# Altium footprint library ANT-LTE-CER-T.PcbLib: 1 footprints
Each footprint in its own frame and in the unit in brackets; x right, y up, seen from the top. Pads: shape width x height; smd on the part's side, far side on the other; paste and mask are expansions set on the pad; w line width, h text height; cw(c..) or ccw(c..) is an arc to the next point about the centre after c.
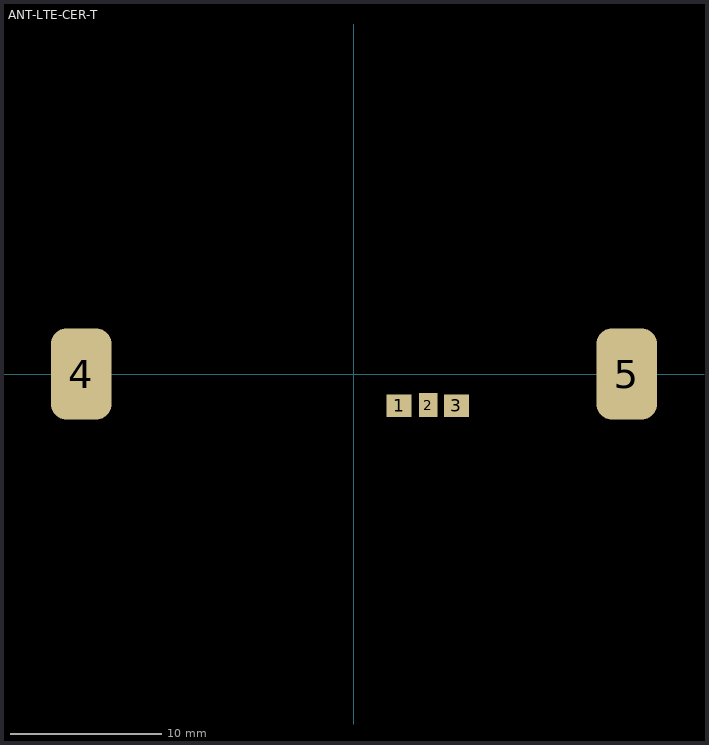
[diagram p0: the footprint, top view; thin cyan lines are the x and y axes]

## ANT-LTE-CER-T [mm]
pads (5):
  rect 1.65x1.5 smd mask+0.05: 1(2.975,-2.1) 3(6.75,-2.1)
  rect 1.2x1.6 smd mask+0.05: 2(4.9,-2.05)
  rrect50% 4x6 smd mask+0.05: 4(-18,0) 5(18,0)
3D body "ANT-LTE-CER-T--3DModel-STEP-56544.STEP": height 5.15, standoff 0, extent -18.5,-2.5 18.5,2.5